# Altium schematic symbol library SCH - POWER - LINEAR VREG - TI LP2951-50-Q1D.SchLib: 1 symbol
Pins are listed as number, name and electrical type; pins without a type are passive.

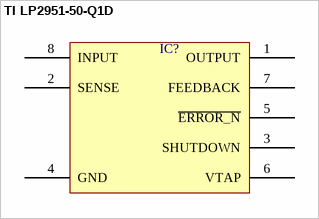
[diagram p0: symbol TI LP2951-50-Q1D]

## TI LP2951-50-Q1D
designator IC?  (value not drawn)
pins: 1 OUTPUT, 2 SENSE, 3 SHUTDOWN, 4 GND, 5 ~{ERROR_N}, 6 VTAP, 7 FEEDBACK, 8 INPUT